# EAGLE library part PCA9536 (library LinnesLab-DigitalIC)
https://www.nxp.com/docs/en/data-sheet/PCA9536.pdf
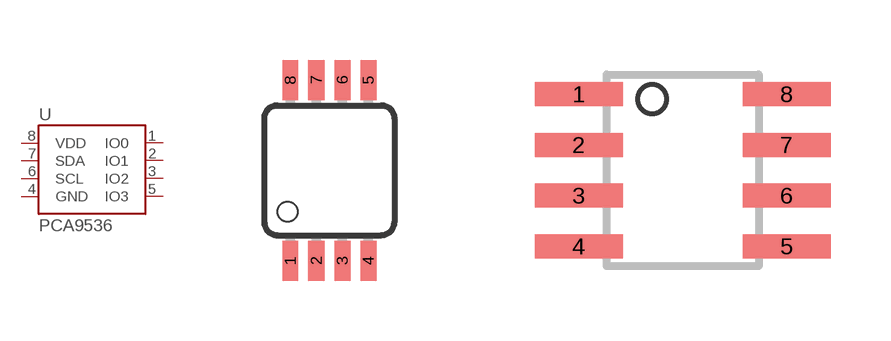
[diagram p9: symbol with the pads of MSOP08; footprints MSOP08, SO8]

Designator prefix U

## PCA9536  [MSOP08]
1  IO0
2  IO1
3  IO2
4  GND  pwr
5  IO3
6  SCL
7  SDA
8  VDD  pwr

## PCA9536.SO8  [SO8]
Pads as for MSOP08

## Footprint MSOP08 (pad centres in mm)
8-Lead micro SO (RM-8) Source: http://www.analog.com/UploadedFiles/Data_Sheets/703465986AD8611_2_0.pdf
smd 0.4 x 1: 1 -0.976,-2.263; 2 -0.326,-2.263; 3 0.324,-2.263; 4 0.974,-2.263; 5 0.974,2.262; 6 0.324,2.262; 7 -0.326,2.262; 8 -0.976,2.262

## Footprint SO8 (pad centres in mm)
8-Lead Small Outline IC (SO-8)
smd 2.2 x 0.6: 1 -2.6,1.905; 2 -2.6,0.635; 3 -2.6,-0.635; 4 -2.6,-1.905; 5 2.6,-1.905; 6 2.6,-0.635; 7 2.6,0.635; 8 2.6,1.905